# Altium schematic symbol library BME280.SchLib: 1 symbol
Pins are listed as number, name and electrical type; pins without a type are passive.

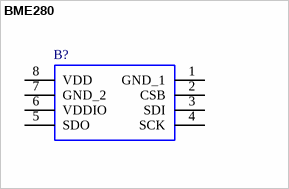
[diagram p0: symbol BME280]

## BME280
designator B?
Board Mount Humidity Sensors; Manufacturer_Name: Bosch Sensortec; Manufacturer_Part_Number: BME280; Mouser Part Number: 262-BME280; Mouser Price/Stock: https://www.mouser.co.uk/ProductDetail/Bosch-Sensortec/BME280?qs=2OnyuXx6vpj2fK9HX7qb3g%3D%3D; Arrow Part Number: BME280; Arrow Price/Stock: https://www.arrow.com/en/products/bme280/bosch?region=nac; Mouser Testing Part Number: *; Mouser Testing Price/Stock: *; Datasheet Link: https://datasheet.datasheetarchive.com/originals/distributors/DKDS-24/462906.pdf
footprint BME280
pins: 1 GND_1, 2 CSB, 3 SDI, 4 SCK, 5 SDO, 6 VDDIO (power), 7 GND_2, 8 VDD (power)